# Altium footprint library PaivacbLib1.PcbLib: 39 footprints (part 3 of 3)
Each footprint in its own frame and in the unit in brackets; x right, y up, seen from the top. Pads: shape width x height; smd on the part's side, far side on the other; paste and mask are expansions set on the pad; w line width, h text height; cw(c..) or ccw(c..) is an arc to the next point about the centre after c.
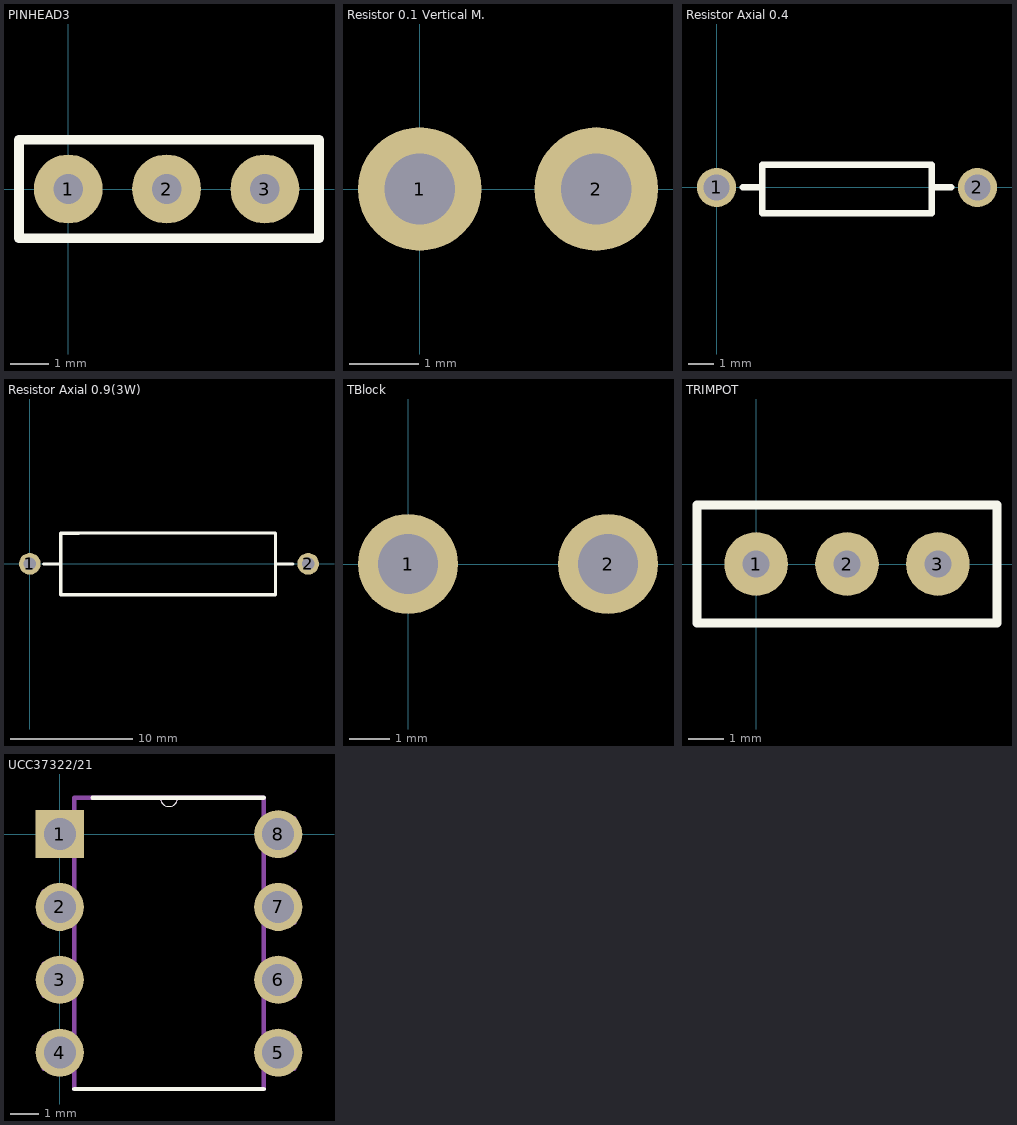
[diagram p2: the footprints below, top view; thin cyan lines are the x and y axes]

## PINHEAD3 [mil]
pads (3):
  round 70 hole 30: 1(0,0) 2(100,0) 3(200,0)
Top Overlay:
  lines w10: -50,-50 -50,50 255,50 255,-50 -50,-50

## Resistor 0.1 Vertical M. [mil]
pads (2):
  round 70 hole 40: 1(0,0) 2(100,0)

## Resistor Axial 0.4 [mil]
pads (2):
  round 60 hole 40: 1(0,0) 2(400,0)
Top Overlay:
  lines w10: 40,0 70,0 ; 335,0 360,0 ; 70,0 70,-40 145,-40 330,-40 330,35 70,35 70,0

## Resistor Axial 0.9(3W) [mil]
pads (2):
  round 70 hole 40: 1(0,0) 2(900,0)
Top Overlay:
  lines w10: 45,0 100,0 ; 100,-101.25 100,-1.25 100,25 100,98.75 158.75,98.75 160,100 ; 101.25,-100 160,-100 795,-100 795,100 160,100 ; 101.25,100 160,100 ; 795,0 850,0

## TBlock [mm]
pads (2):
  round 2.5 hole 1.5: 1(0,0) 2(5,0)

## TRIMPOT [mil]
pads (3):
  round 70 hole 30: 1(0,0) 2(100,0) 3(200,0)
Top Overlay:
  lines w10: -65,-65 -65,65 265,65 265,-65 -65,-65

## UCC37322/21 [mil]
pads (8):
  rect 66x66 hole 44: 1(0,0)
  round 66 hole 44: 2(0,-100) 3(0,-200) 4(0,-300) 5(300,-300) 6(300,-200) 7(300,-100) 8(300,0)
Top Overlay:
  lines w0: 138,50 ccw(c150,50) 162,50
  lines w6: 20,-350 280,-350 ; 45,50 138,50 162,50 280,50
Mechanical 1:
  lines w0: 138,50 ccw(c150,50) 162,50
  lines w6: -22,-322 -22,-278 20,-278 20,-322 -22,-322 ; -22,-222 -22,-178 20,-178 20,-222 -22,-222 ; -22,-122 -22,-78 20,-78 20,-122 -22,-122 ; -22,-22 -22,22 20,22 20,-22 -22,-22 ; 20,-350 280,-350 280,50 162,50 138,50 20,50 20,-350 ; 280,-322 280,-278 322,-278 322,-322 280,-322 ; 280,-222 280,-178 322,-178 322,-222 280,-222 ; 280,-122 280,-78 322,-78 322,-122 280,-122 ; 280,-22 280,22 322,22 322,-22 280,-22